# Altium footprint library 823-22-006-10-004101 Pogo.PcbLib: 1 footprints
Each footprint in its own frame and in the unit in brackets; x right, y up, seen from the top. Pads: shape width x height; smd on the part's side, far side on the other; paste and mask are expansions set on the pad; w line width, h text height; cw(c..) or ccw(c..) is an arc to the next point about the centre after c.
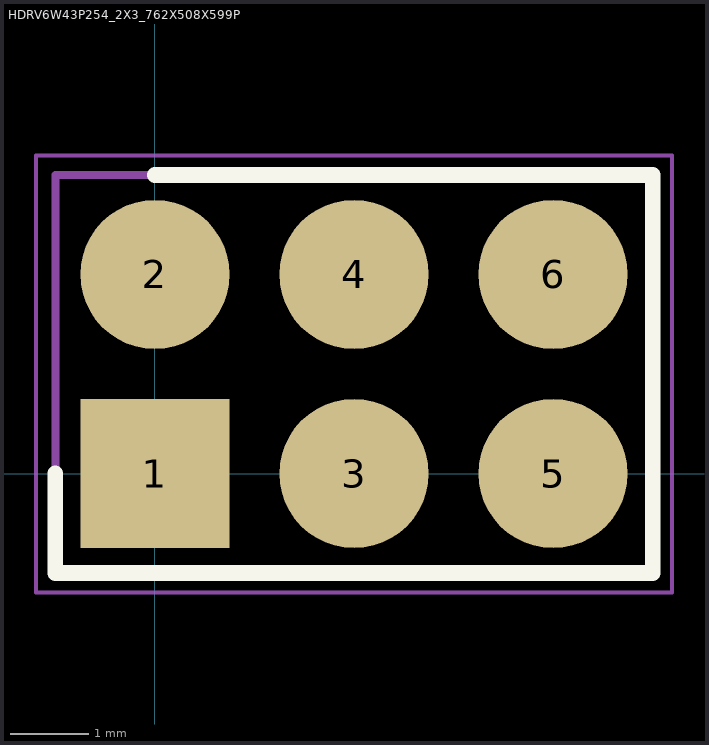
[diagram p0: the footprint, top view; thin cyan lines are the x and y axes]

## HDRV6W43P254_2X3_762X508X599P [mil]
pads (6):
  rect 75x75 smd: 1(0,0)
  round 75 smd: 2(0,100) 3(100,0) 4(100,100) 5(200,0) 6(200,100)
Top Overlay:
  lines w7.87: -50,0 -50,-50 250,-50 250,150 0,150
Mechanical 13:
  lines w3.94: -50,-50 -50,150 250,150 250,-50 -50,-50
Mechanical 15:
  lines w1.97: -59.84,-59.84 -59.84,159.84 259.84,159.84 259.84,-59.84 -59.84,-59.84
3D body "mill-max-813-22-006-30-000101.STEP": height 140.55, standoff 3.55, extent -52.03,-50 247.97,150